# Altium schematic symbol library DC_DC_5V_2W.SchLib: 1 symbol
Pins are listed as number, name and electrical type; pins without a type are passive.

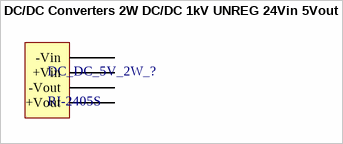
[diagram p0: symbol DC/DC Converters 2W DC/DC 1kV UNREG 24Vin 5Vout]

## DC/DC Converters 2W DC/DC 1kV UNREG 24Vin 5Vout
designator DC_DC_5V_2W_?, comment RI-2405S
footprint PCBComponent_1
pins: 1 -Vin, 2 +Vin, 3 -Vout, 4 +Vout